# Altium footprint library PcbLib.PcbLib: 1 footprints
Each footprint in its own frame and in the unit in brackets; x right, y up, seen from the top. Pads: shape width x height; smd on the part's side, far side on the other; paste and mask are expansions set on the pad; w line width, h text height; cw(c..) or ccw(c..) is an arc to the next point about the centre after c.
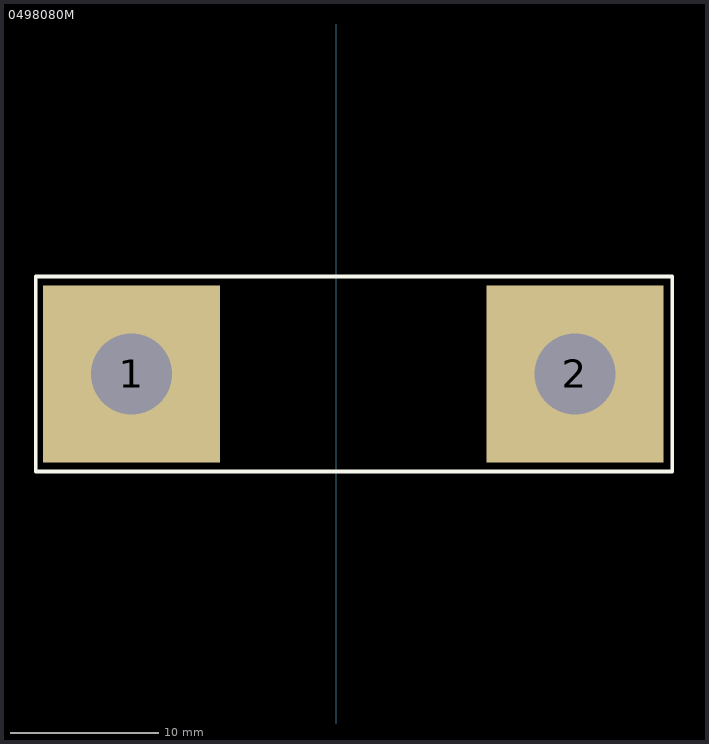
[diagram p0: the footprint, top view; thin cyan lines are the x and y axes]

## 0498080M [mm] "80 A 32 V Fuse Automotive Bolt Mount Auto Link"
pads (2):
  rect 12x12 hole 5.5: 1(-13.843,146.431) 2(16.157,146.431)
Top Overlay:
  lines w0.254: -20.32,139.827 22.733,139.827 22.733,153.035 -20.32,153.035 -20.32,139.827
  text ".Designator" at -20.066,137.414 h1.52